# Altium schematic symbol library Symbol_lib.SchLib: 8 symbols
Pins are listed as number, name and electrical type; pins without a type are passive.

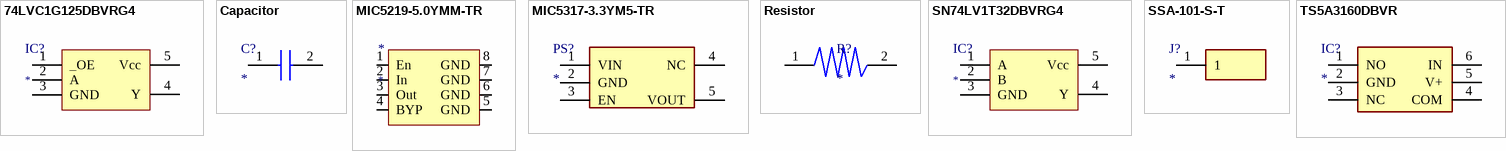
[diagram p0: symbols 74LVC1G125DBVRG4 to TS5A3160DBVR]

## 74LVC1G125DBVRG4
designator IC?
Supplier 1: Mouser; Supplier Part Number 1: 595-74LVC1G125DBVRG4
footprint SOT-23-5
pins: 1 _OE, 2 A, 3 GND, 4 Y, 5 Vcc

## Capacitor
designator C?
Capacitor
footprint 0603
pins: 1, 2

## MIC5219-5.0YMM-TR
designator *
footprint MSOP-8_MS
pins: 1 En, 2 In, 3 Out, 4 BYP, 5 GND, 6 GND, 7 GND, 8 GND

## MIC5317-3.3YM5-TR
designator PS?
Power Supply; Manufacturer_Name: Microchip; Manufacturer_Part_Number: MIC5317-3.3YM5-TR; Datasheet Link: https://componentsearchengine.com//MIC5317-3.3YM5-TR.pdf; Height: 1mm; Mouser2 Part Number: 998-MIC5317-3.3YM5TR; Mouser2 Price/Stock: https://www.mouser.com/Search/Refine.aspx?Keyword=998-MIC5317-3.3YM5TR
footprint SOT-23-5
pins: 1 VIN, 2 GND, 3 EN, 4 NC, 5 VOUT

## Resistor
designator R?
Resistor
footprint 0603
pins: 1, 2

## SN74LV1T32DBVRG4
designator IC?
Supplier 1: Mouser; Supplier Part Number 1: 595-SN74LV1T32DBVRG4
footprint SOT-23-5
pins: 1 A, 2 B, 3 GND, 4 Y, 5 Vcc

## SSA-101-S-T
designator J?
Connector; Manufacturer_Name: SAMTEC; Manufacturer_Part_Number: SSA-101-S-T; Datasheet Link: http://suddendocs.samtec.com/prints/ssas-mkt.pdf
footprint SSA-101-S-X
pins: 1

## TS5A3160DBVR
designator IC?
Integrated Circuit; Manufacturer_Name: Texas Instruments; Manufacturer_Part_Number: TS5A3160DBVR; Datasheet Link: http://www.ti.com/lit/gpn/ts5a3160; Height: 1.45mm; Mouser2 Part Number: 595-TS5A3160DBVR; Mouser2 Price/Stock: https://www.mouser.com/Search/Refine.aspx?Keyword=595-TS5A3160DBVR
footprint SOT-23-6
pins: 1 NO, 2 GND, 3 NC, 4 COM, 5 V+, 6 IN